# Altium footprint library Panasonic Footprints.PcbLib: 49 footprints (part 1 of 4)
Each footprint in its own frame and in the unit in brackets; x right, y up, seen from the top. Pads: shape width x height; smd on the part's side, far side on the other; paste and mask are expansions set on the pad; w line width, h text height; cw(c..) or ccw(c..) is an arc to the next point about the centre after c.
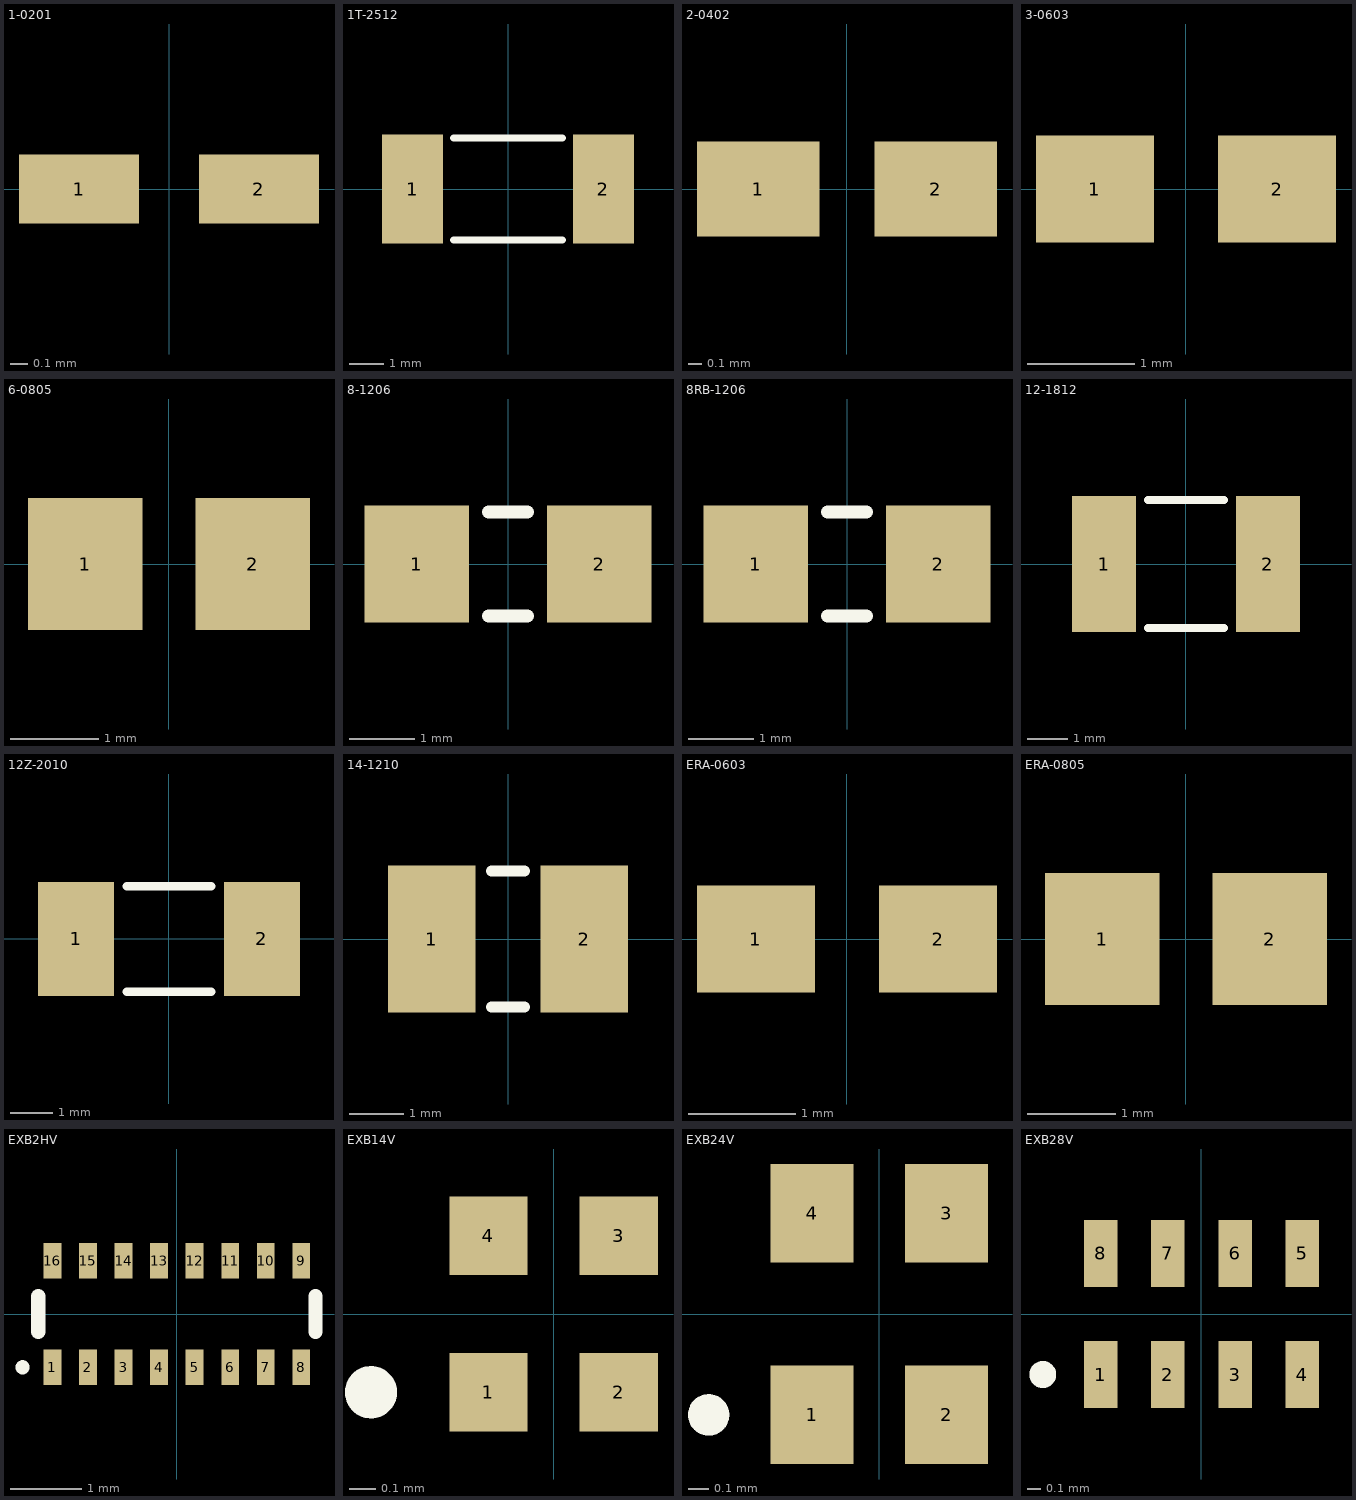
[diagram p0: the footprints below, top view; thin cyan lines are the x and y axes]

## 1-0201 [mm] "Chip Resistor; Body 0.6 x 0.3 mm (LxW typ)"
height 0.3
pads (2):
  rect 0.7x0.4 smd: 1(-0.525,0) 2(0.525,0)

## 1T-2512 [mm] "Chip Resistor; Body 6.4 x 3.2 mm (LxW typ)"
height 0.7
pads (2):
  rect 1.8x3.2 smd: 1(-2.8,0) 2(2.8,0)
Top Overlay:
  lines w0.2: -1.6,-1.5 1.6,-1.5 ; -1.6,1.5 1.6,1.5

## 2-0402 [mm] "Chip Resistor; Body 1 x 0.5 mm (LxW typ)"
height 0.4
pads (2):
  rect 0.9x0.7 smd: 1(-0.65,0) 2(0.65,0)

## 3-0603 [mm] "Chip Resistor; Body 1.6 x 0.9 mm (LxW typ)"
height 0.55
pads (2):
  rect 1.1x1 smd: 1(-0.85,0) 2(0.85,0)

## 6-0805 [mm] "Chip Resistor; Body 2 x 1.2 mm (LxW typ)"
height 0.7
pads (2):
  rect 1.3x1.5 smd: 1(-0.95,0) 2(0.95,0)

## 8-1206 [mm] "Chip Resistor; Body 3.1 x 1.6 mm (LxW typ)"
height 0.7
pads (2):
  rect 1.6x1.8 smd: 1(-1.4,0) 2(1.4,0)
Top Overlay:
  lines w0.2: -0.3,-0.8 0.3,-0.8 ; -0.3,0.8 0.3,0.8

## 8RB-1206 [mm] "Chip Resistor; Body 3.2 x 1.6 mm (LxW typ)"
height 0.7
pads (2):
  rect 1.6x1.8 smd: 1(-1.4,0) 2(1.4,0)
Top Overlay:
  lines w0.2: -0.3,-0.8 0.3,-0.8 ; -0.3,0.8 0.3,0.8

## 12-1812 [mm] "Chip Resistor; Body 4.5 x 3.2 mm (LxW typ)"
height 0.7
pads (2):
  rect 1.6x3.4 smd: 1(-2.05,0) 2(2.05,0)
Top Overlay:
  lines w0.2: -0.95,-1.6 0.95,-1.6 ; -0.95,1.6 0.95,1.6

## 12Z-2010 [mm] "Chip Resistor; Body 5 x 2.5 mm (LxW typ)"
height 0.7
pads (2):
  rect 1.8x2.7 smd: 1(-2.2,0) 2(2.2,0)
Top Overlay:
  lines w0.2: -1,-1.25 1,-1.25 ; -1,1.25 1,1.25

## 14-1210 [mm] "Chip Resistor; Body 3.2 x 2.5 mm (LxW typ)"
height 0.7
pads (2):
  rect 1.6x2.7 smd: 1(-1.4,0) 2(1.4,0)
Top Overlay:
  lines w0.2: -0.3,-1.25 0.3,-1.25 ; -0.3,1.25 0.3,1.25

## ERA-0603 [mm] "Chip Resistor; Body 1.6 x 0.8 mm (LxW typ)"
height 0.55
pads (2):
  rect 1.1x1 smd: 1(-0.85,0) 2(0.85,0)

## ERA-0805 [mm] "Chip Resistor; Body 2 x 1.3 mm (LxW typ)"
height 0.6
pads (2):
  rect 1.3x1.5 smd: 1(-0.95,0) 2(0.95,0)

## EXB2HV [mm] "Chip Resistor Array, (0402x8); SM; 16 Leads; Body 3.90 x 1.70 mm (LxW max)"
height 0.55
pads (16):
  rect 0.25x0.5 smd: 1(-1.75,-0.75) 2(-1.25,-0.75) 3(-0.75,-0.75) 4(-0.25,-0.75) 5(0.25,-0.75) 6(0.75,-0.75) 7(1.25,-0.75) 8(1.75,-0.75) 9(1.75,0.75) 10(1.25,0.75) 11(0.75,0.75) 12(0.25,0.75) 13(-0.25,0.75) 14(-0.75,0.75) 15(-1.25,0.75) 16(-1.75,0.75)
Top Overlay:
  circle w0.1: c-2.17,-0.75 r0.05
  lines w0.2: -1.95,-0.25 -1.95,0.25 ; 1.95,-0.25 1.95,0.25

## EXB14V [mm] "Chip Resistor Array, (0201x2); SM; 4 Leads; Body 0.90 x 0.70 mm (LxW max)"
height 0.45
pads (4):
  rect 0.3x0.3 smd: 1(-0.25,-0.3) 2(0.25,-0.3) 3(0.25,0.3) 4(-0.25,0.3)
Top Overlay:
  circle w0.1: c-0.7,-0.3 r0.05

## EXB24V [mm] "Chip Resistor Array, (0402x2); SM; 4 Leads; Body 1.05 x 1.05 mm (LxW max)"
height 0.4
pads (4):
  rect 0.4x0.475 smd: 1(-0.325,-0.487) 2(0.325,-0.487) 3(0.325,0.487) 4(-0.325,0.487)
Top Overlay:
  circle w0.1: c-0.825,-0.487 r0.05

## EXB28V [mm] "Chip Resistor Array, (0402x4); SM; 8 Leads; Body 2.10 x 1.10 mm (LxW max)"
height 0.45
pads (8):
  rect 0.25x0.5 smd: 1(-0.75,-0.45) 2(-0.25,-0.45) 3(0.25,-0.45) 4(0.75,-0.45) 5(0.75,0.45) 6(0.25,0.45) 7(-0.25,0.45) 8(-0.75,0.45)
Top Overlay:
  circle w0.1: c-1.18,-0.45 r0.05